# Altium footprint library xlib.PcbLib: 3 footprints
Each footprint in its own frame and in the unit in brackets; x right, y up, seen from the top. Pads: shape width x height; smd on the part's side, far side on the other; paste and mask are expansions set on the pad; w line width, h text height; cw(c..) or ccw(c..) is an arc to the next point about the centre after c.
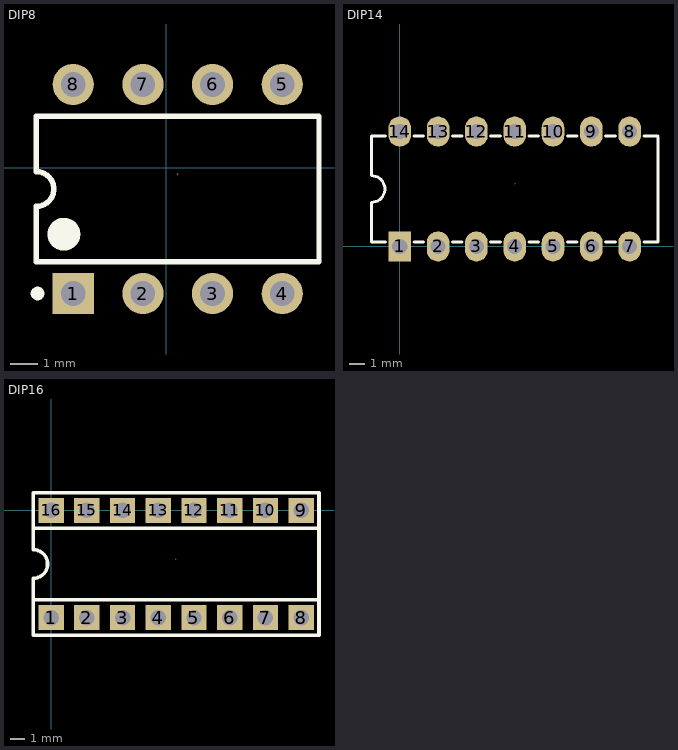
[diagram p0: the footprints below, top view; thin cyan lines are the x and y axes]

## DIP8 [mm]
pads (8):
  rect 1.5x1.5 hole 0.9: 1(-3.386,-4.584)
  round 1.5 hole 0.9: 2(-0.846,-4.584) 3(1.694,-4.584) 4(4.234,-4.584) 5(4.234,3.036) 6(1.694,3.036) 7(-0.846,3.036) 8(-3.386,3.036)
Top Overlay:
  lines w0.2: -4.727,-1.409 ccw(c-4.727,-0.774) -4.727,-0.139 ; -4.726,-1.409 -4.726,-3.424 5.574,-3.424 5.574,1.876 -4.726,1.876 -4.726,-0.139
  lines w0.25: -4.811,-4.584 ccw(c-4.686,-4.583) -4.811,-4.581
  lines w0.6: -4.026,-2.425 ccw(c-3.726,-2.422) -4.026,-2.42
Mechanical 15:
  lines w0.003: 0.399,-0.254 0.449,-0.203

## DIP14 [mm]
pads (14):
  rect 1.5x2 hole 1: 1(0,0)
  oval 1.5x2 hole 1: 2(2.54,0) 3(5.08,0) 4(7.62,0) 5(10.16,0) 6(12.7,0) 7(15.24,0) 8(15.24,7.62) 9(12.7,7.62) 10(10.16,7.62) 11(7.62,7.62) 12(5.08,7.62) 13(2.54,7.62) 14(0,7.62)
Top Overlay:
  lines w0.2: -0.954,0.31 -1.88,0.31 -1.88,2.921 ccw(c-1.88,3.81) -1.88,4.699 -1.88,7.31 -0.952,7.31 ; 0.952,7.31 1.588,7.31 ; 0.954,0.31 1.588,0.31 ; 3.492,0.31 4.128,0.31 ; 3.492,7.31 4.128,7.31 ; 6.032,0.31 6.668,0.31 ; 6.032,7.31 6.668,7.31 ; 8.572,0.31 9.208,0.31 ; 8.572,7.31 9.208,7.31 ; 11.112,0.31 11.748,0.31 ; 11.112,7.31 11.748,7.31 ; 13.652,0.31 14.288,0.31 ; 13.652,7.31 14.288,7.31 ; 16.192,0.31 17.12,0.31 17.12,7.239 ; 16.192,7.31 17.12,7.31
Mechanical 15:
  lines w0.003: 7.595,4.142 7.645,4.193

## DIP16 [mm]
pads (16):
  rect 1.8x1.8 hole 1.1: 1(0,-7.62) 2(2.54,-7.62) 3(5.08,-7.62) 4(7.62,-7.62) 5(10.16,-7.62) 6(12.7,-7.62) 7(15.24,-7.62) 8(17.78,-7.62) 9(17.78,0) 10(15.24,0) 11(12.7,0) 12(10.16,0) 13(7.62,0) 14(5.08,0) 15(2.54,0) 16(0,0)
Top Overlay:
  lines w0.254: -1.27,-6.35 -1.27,-4.826 ccw(c-1.27,-3.81) -1.27,-2.794 -1.27,-1.27 ; -1.27,-6.35 19.05,-6.35 ; -1.27,-6.35 -1.27,-8.89 19.05,-8.89 19.05,-6.35 ; -1.27,-1.27 19.05,-1.27 ; -1.27,-1.27 -1.27,1.27 19.05,1.27 19.05,-1.27 ; 19.05,-6.35 19.05,-1.27
Mechanical 15:
  lines w0.003: 8.865,-3.486 8.915,-3.435